# Altium schematic symbol library PW4040封装库.SCHLIB: 28 symbols
Pins are listed as number, name and electrical type; pins without a type are passive.

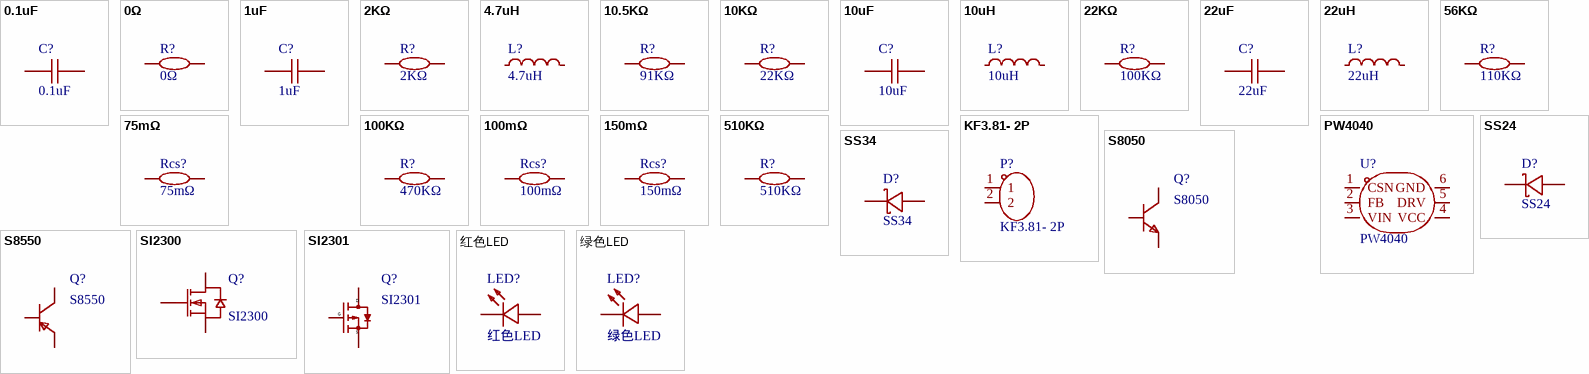
[diagram p0: symbols 0.1uF to 绿色LED]

## 0.1uF
designator C?
Value: 0.1uF
footprint C0805
pins: 1, 2

## 0Ω
designator R?
Value: 0Ω
footprint R0805
pins: 1, 2

## 1uF
designator C?
Value: 1uF
footprint C0805
pins: 1, 2

## 2KΩ
designator R?
Value: 2KΩ
footprint R0805
pins: 1, 2

## 4.7uH
designator L?
Value: 4.7uH
footprint IND-SMD_L5.4-W5.2
pins: 1, 2

## 10.5KΩ
designator R?, comment 91KΩ
Value: 91KΩ
footprint R0805
pins: 1, 2

## 10KΩ
designator R?, comment 22KΩ
Value: 22KΩ
footprint R0805
pins: 1, 2

## 10uF
designator C?
Value: 10uF
footprint C0805
pins: 1, 2

## 10uH
designator L?
Value: 10uH
footprint IND-SMD_L5.4-W5.2
pins: 1, 2

## 22KΩ
designator R?, comment 100KΩ
Value: 100KΩ
footprint R0805
pins: 1, 2

## 22uF
designator C?
Value: 22uF
footprint C0805
pins: 1, 2

## 22uH
designator L?
Value: 22uH
footprint IND-SMD_L5.4-W5.2
pins: 1, 2

## 56KΩ
designator R?, comment 110KΩ
Value: 110KΩ
footprint R0805
pins: 1, 2

## 75mΩ
designator Rcs?
Value: 75mΩ
footprint R2512
pins: 1, 2

## 100KΩ
designator R?, comment 470KΩ
Value: 470KΩ
footprint R0805
pins: 1, 2

## 100mΩ
designator Rcs?
Value: 100mΩ
footprint R2512
pins: 1, 2

## 150mΩ
designator Rcs?
Value: 150mΩ
footprint R2512
pins: 1, 2

## 510KΩ
designator R?
Value: 510KΩ
footprint R0805
pins: 1, 2

## KF3.81- 2P
designator P?
footprint 3.81 - 2P
pins: 1, 2

## PW4040
designator U?
footprint SOT-23(SOT-23-6)
pins: 1 CSN, 2 FB, 3 VIN, 4 VCC, 5 DRV, 6 GND

## S8050
designator Q?
footprint SOT-23(SOT-23-3)
pins: 1 B, 2 E, 3 C

## S8550
designator Q?
footprint SOT-23(SOT-23-3)
pins: 1 B, 2 E, 3 C

## SI2300
designator Q?
footprint SOT-23(SOT-23-3)
pins: 1 G, 2 S, 3 D

## SI2301
designator Q?
footprint SOT-23(SOT-23-3)
pins: 1 G, 2 S, 3 D

## SS24
designator D?
footprint SMA(DO-214AC)
pins: 1 K, 2 A

## SS34
designator D?
footprint SMA(DO-214AC)
pins: 1 K, 2 A

## 红色LED
designator LED?
Emitted Color: 红色
footprint LED0805
pins: 1 +, 2 -

## 绿色LED
designator LED?
Emitted Color: 绿色
footprint LED0805
pins: 1 +, 2 -